# EAGLE library part AOZ1280CI (library gametroller)
IC REG BUCK ADJ 1.2A SOT23-6
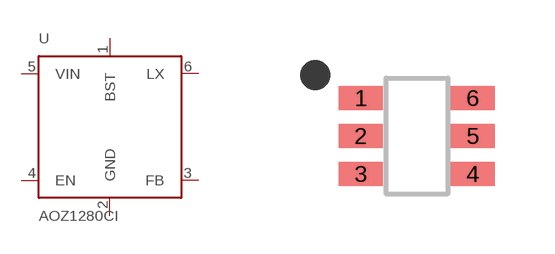
[diagram p8: symbol with the pads of SOT-23-6; footprint SOT-23-6]

Designator prefix -

## AOZ1280CI (MFG: Alpha & Omega Semiconductor Inc.; MPN: AOZ1280CI; PN-DK: 785-1277-1-ND)  [SOT-23-6]
1  BST  pwr
2  GND  pwr
3  FB
4  EN  in
5  VIN  pwr
6  LX  sup

## Footprint SOT-23-6 (pad centres in mm)
smd 1.1 x 0.6: 1 -1.4,0.95; 2 -1.4,0; 3 -1.4,-0.95; 4 1.4,-0.95; 5 1.4,0; 6 1.4,0.95